# Altium schematic symbol library SCH - SENSOR - TEMPERATURE - TI TMP117 DRV.SchLib: 1 symbol
Pins are listed as number, name and electrical type; pins without a type are passive.

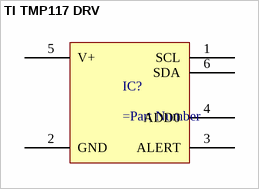
[diagram p0: symbol TI TMP117 DRV]

## TI TMP117 DRV
designator IC?
pins: 1 SCL, 2 GND, 3 ALERT, 4 ADD0, 5 V+, 6 SDA